# Altium footprint library Connector_Harwin.PcbLib: 102 footprints (part 4 of 7)
Each footprint in its own frame and in the unit in brackets; x right, y up, seen from the top. Pads: shape width x height; smd on the part's side, far side on the other; paste and mask are expansions set on the pad; w line width, h text height; cw(c..) or ccw(c..) is an arc to the next point about the centre after c.
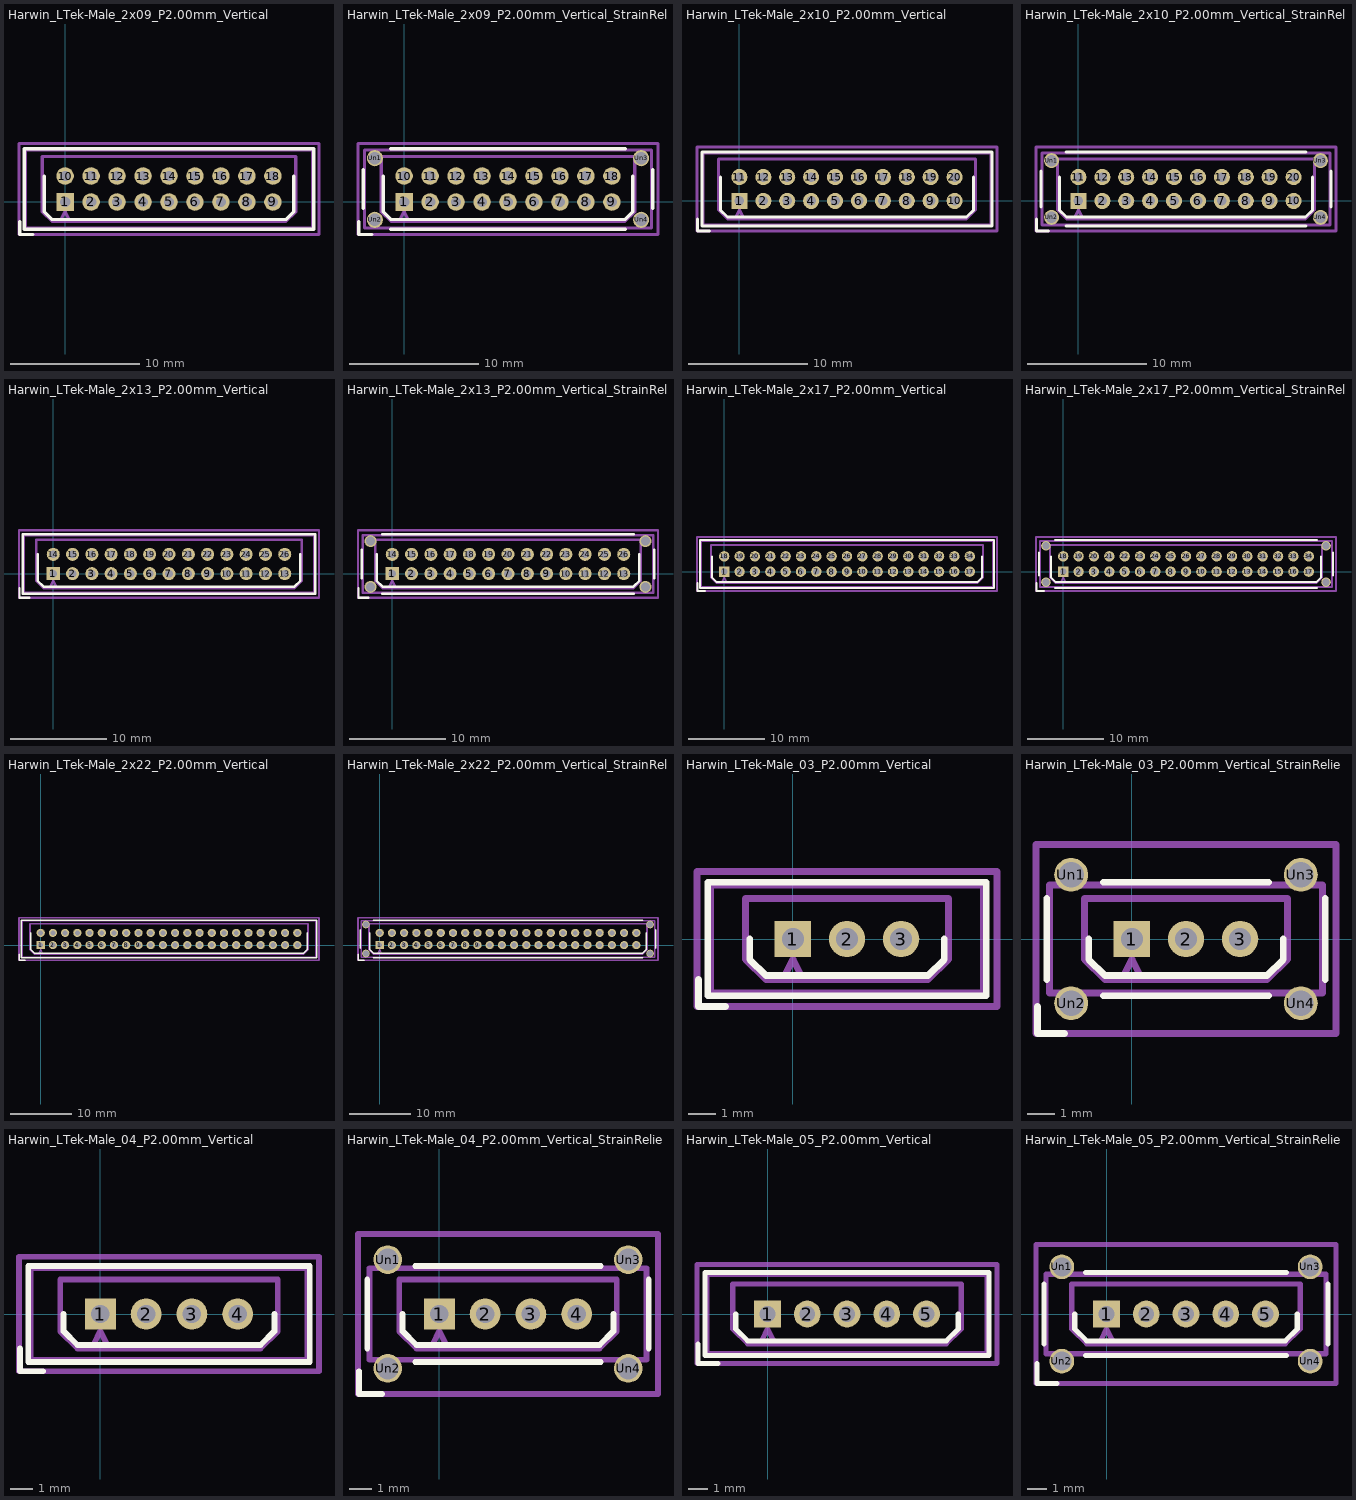
[diagram p3: the footprints below, top view; thin cyan lines are the x and y axes]

## Harwin_LTek-Male_2x09_P2.00mm_Vertical [mm]
pads (18):
  rect 1.35x1.35 hole 0.8: 1(0,0)
  round 1.35 hole 0.8: 2(2,0) 3(4,0) 4(6,0) 5(8,0) 6(10,0) 7(12,0) 8(14,0) 9(16,0) 10(0,2) 11(2,2) 12(4,2) 13(6,2) 14(8,2) 15(10,2) 16(12,2) 17(14,2) 18(16,2)
F.SilkS:
  lines w0.254: -3.5,-1.5 -3.5,-2.5 -2.5,-2.5 ; -1.6,2 -1.6,-0.75 -1,-1.35 8,-1.35 17,-1.35 17.6,-0.75 17.6,2 ; -3.15,-2.1 19.15,-2.1 19.15,4.1 -3.15,4.1 -3.15,-2.1
Top Assembly:
  lines w0.254: -3.05,-2 19.05,-2 19.05,4 -3.05,4 -3.05,-2 ; -1.75,-0.75 -1,-1.5 17,-1.5 17.75,-0.75 17.75,3.5 -1.75,3.5 -1.75,-0.75 ; -0.3,-1.35 0,-0.75 0.3,-1.35 -0.3,-1.35
  text "'.Designator'" at 3.953,-0.84 h1
Top Courtyard:
  lines w0.254: -3.55,-2.5 19.55,-2.5 19.55,4.5 -3.55,4.5 -3.55,-2.5
Top Designator:
  text ".Designator" at 0.382,0.492 h1.52

## Harwin_LTek-Male_2x09_P2.00mm_Vertical_StrainRelief [mm]
pads (22):
  rect 1.35x1.35 hole 0.8: 1(0,0)
  round 1.35 hole 0.8: 2(2,0) 3(4,0) 4(6,0) 5(8,0) 6(10,0) 7(12,0) 8(14,0) 9(16,0) 10(0,2) 11(2,2) 12(4,2) 13(6,2) 14(8,2) 15(10,2) 16(12,2) 17(14,2) 18(16,2)
  round 1.25 hole 0.95: Un1(-2.25,3.375) Un2(-2.25,-1.375) Un3(18.25,3.375) Un4(18.25,-1.375)
F.SilkS:
  lines w0.254: -3.5,-1.5 -3.5,-2.5 -2.5,-2.5 ; -3.15,-0.5 -3.15,2.5 ; -1.6,2 -1.6,-0.75 -1,-1.35 8,-1.35 17,-1.35 17.6,-0.75 17.6,2 ; -1.05,-2.1 17.05,-2.1 ; -1.05,4.1 17.05,4.1 ; 19.15,-0.5 19.15,2.5
Top Assembly:
  lines w0.254: -3.05,-2 19.05,-2 19.05,4 -3.05,4 -3.05,-2 ; -1.75,-0.75 -1,-1.5 17,-1.5 17.75,-0.75 17.75,3.5 -1.75,3.5 -1.75,-0.75 ; -0.3,-1.35 0,-0.75 0.3,-1.35 -0.3,-1.35
  text "'.Designator'" at 3.953,-0.84 h1
Top Courtyard:
  lines w0.254: -3.55,-2.5 19.55,-2.5 19.55,4.5 -3.55,4.5 -3.55,-2.5
Top Designator:
  text ".Designator" at 0.382,0.492 h1.52

## Harwin_LTek-Male_2x10_P2.00mm_Vertical [mm]
pads (20):
  rect 1.35x1.35 hole 0.8: 1(0,0)
  round 1.35 hole 0.8: 2(2,0) 3(4,0) 4(6,0) 5(8,0) 6(10,0) 7(12,0) 8(14,0) 9(16,0) 10(18,0) 11(0,2) 12(2,2) 13(4,2) 14(6,2) 15(8,2) 16(10,2) 17(12,2) 18(14,2) 19(16,2) 20(18,2)
F.SilkS:
  lines w0.254: -3.5,-1.5 -3.5,-2.5 -2.5,-2.5 ; -1.6,2 -1.6,-0.75 -1,-1.35 9,-1.35 19,-1.35 19.6,-0.75 19.6,2 ; -3.15,-2.1 21.15,-2.1 21.15,4.1 -3.15,4.1 -3.15,-2.1
Top Assembly:
  lines w0.254: -3.05,-2 21.05,-2 21.05,4 -3.05,4 -3.05,-2 ; -1.75,-0.75 -1,-1.5 19,-1.5 19.75,-0.75 19.75,3.5 -1.75,3.5 -1.75,-0.75 ; -0.3,-1.35 0,-0.75 0.3,-1.35 -0.3,-1.35
  text "'.Designator'" at 4.953,-0.84 h1
Top Courtyard:
  lines w0.254: -3.55,-2.5 21.55,-2.5 21.55,4.5 -3.55,4.5 -3.55,-2.5
Top Designator:
  text ".Designator" at 1.382,0.492 h1.52

## Harwin_LTek-Male_2x10_P2.00mm_Vertical_StrainRelief [mm]
pads (24):
  rect 1.35x1.35 hole 0.8: 1(0,0)
  round 1.35 hole 0.8: 2(2,0) 3(4,0) 4(6,0) 5(8,0) 6(10,0) 7(12,0) 8(14,0) 9(16,0) 10(18,0) 11(0,2) 12(2,2) 13(4,2) 14(6,2) 15(8,2) 16(10,2) 17(12,2) 18(14,2) 19(16,2) 20(18,2)
  round 1.25 hole 0.95: Un1(-2.25,3.375) Un2(-2.25,-1.375) Un3(20.25,3.375) Un4(20.25,-1.375)
F.SilkS:
  lines w0.254: -3.5,-1.5 -3.5,-2.5 -2.5,-2.5 ; -3.15,-0.5 -3.15,2.5 ; -1.6,2 -1.6,-0.75 -1,-1.35 9,-1.35 19,-1.35 19.6,-0.75 19.6,2 ; -1.05,-2.1 19.05,-2.1 ; -1.05,4.1 19.05,4.1 ; 21.15,-0.5 21.15,2.5
Top Assembly:
  lines w0.254: -3.05,-2 21.05,-2 21.05,4 -3.05,4 -3.05,-2 ; -1.75,-0.75 -1,-1.5 19,-1.5 19.75,-0.75 19.75,3.5 -1.75,3.5 -1.75,-0.75 ; -0.3,-1.35 0,-0.75 0.3,-1.35 -0.3,-1.35
  text "'.Designator'" at 4.953,-0.84 h1
Top Courtyard:
  lines w0.254: -3.55,-2.5 21.55,-2.5 21.55,4.5 -3.55,4.5 -3.55,-2.5
Top Designator:
  text ".Designator" at 1.382,0.492 h1.52

## Harwin_LTek-Male_2x13_P2.00mm_Vertical [mm]
pads (26):
  rect 1.35x1.35 hole 0.8: 1(0,0)
  round 1.35 hole 0.8: 2(2,0) 3(4,0) 4(6,0) 5(8,0) 6(10,0) 7(12,0) 8(14,0) 9(16,0) 10(18,0) 11(20,0) 12(22,0) 13(24,0) 14(0,2) 15(2,2) 16(4,2) 17(6,2) 18(8,2) 19(10,2) 20(12,2) 21(14,2) 22(16,2) 23(18,2) 24(20,2) 25(22,2) 26(24,2)
F.SilkS:
  lines w0.254: -3.5,-1.5 -3.5,-2.5 -2.5,-2.5 ; -1.6,2 -1.6,-0.75 -1,-1.35 12,-1.35 25,-1.35 25.6,-0.75 25.6,2 ; -3.15,-2.1 27.15,-2.1 27.15,4.1 -3.15,4.1 -3.15,-2.1
Top Assembly:
  lines w0.254: -3.05,-2 27.05,-2 27.05,4 -3.05,4 -3.05,-2 ; -1.75,-0.75 -1,-1.5 25,-1.5 25.75,-0.75 25.75,3.5 -1.75,3.5 -1.75,-0.75 ; -0.3,-1.35 0,-0.75 0.3,-1.35 -0.3,-1.35
  text "'.Designator'" at 7.953,-0.84 h1
Top Courtyard:
  lines w0.254: -3.55,-2.5 27.55,-2.5 27.55,4.5 -3.55,4.5 -3.55,-2.5
Top Designator:
  text ".Designator" at 4.382,0.492 h1.52

## Harwin_LTek-Male_2x13_P2.00mm_Vertical_StrainRelief [mm]
pads (30):
  rect 1.35x1.35 hole 0.8: 1(0,0)
  round 1.35 hole 0.8: 2(2,0) 3(4,0) 4(6,0) 5(8,0) 6(10,0) 7(12,0) 8(14,0) 9(16,0) 10(18,0) 11(20,0) 12(22,0) 13(24,0) 14(0,2) 15(2,2) 16(4,2) 17(6,2) 18(8,2) 19(10,2) 20(12,2) 21(14,2) 22(16,2) 23(18,2) 24(20,2) 25(22,2) 26(24,2)
  round 1.25 hole 0.95: Un1(-2.25,3.375) Un2(-2.25,-1.375) Un3(26.25,3.375) Un4(26.25,-1.375)
F.SilkS:
  lines w0.254: -3.5,-1.5 -3.5,-2.5 -2.5,-2.5 ; -3.15,-0.5 -3.15,2.5 ; -1.6,2 -1.6,-0.75 -1,-1.35 12,-1.35 25,-1.35 25.6,-0.75 25.6,2 ; -1.05,-2.1 25.05,-2.1 ; -1.05,4.1 25.05,4.1 ; 27.15,-0.5 27.15,2.5
Top Assembly:
  lines w0.254: -3.05,-2 27.05,-2 27.05,4 -3.05,4 -3.05,-2 ; -1.75,-0.75 -1,-1.5 25,-1.5 25.75,-0.75 25.75,3.5 -1.75,3.5 -1.75,-0.75 ; -0.3,-1.35 0,-0.75 0.3,-1.35 -0.3,-1.35
  text "'.Designator'" at 7.953,-0.84 h1
Top Courtyard:
  lines w0.254: -3.55,-2.5 27.55,-2.5 27.55,4.5 -3.55,4.5 -3.55,-2.5
Top Designator:
  text ".Designator" at 4.382,0.492 h1.52

## Harwin_LTek-Male_2x17_P2.00mm_Vertical [mm]
pads (34):
  rect 1.35x1.35 hole 0.8: 1(0,0)
  round 1.35 hole 0.8: 2(2,0) 3(4,0) 4(6,0) 5(8,0) 6(10,0) 7(12,0) 8(14,0) 9(16,0) 10(18,0) 11(20,0) 12(22,0) 13(24,0) 14(26,0) 15(28,0) 16(30,0) 17(32,0) 18(0,2) 19(2,2) 20(4,2) 21(6,2) 22(8,2) 23(10,2) 24(12,2) 25(14,2) 26(16,2) 27(18,2) 28(20,2) 29(22,2) 30(24,2) 31(26,2) 32(28,2) 33(30,2) 34(32,2)
F.SilkS:
  lines w0.254: -3.5,-1.5 -3.5,-2.5 -2.5,-2.5 ; -1.6,2 -1.6,-0.75 -1,-1.35 16,-1.35 33,-1.35 33.6,-0.75 33.6,2 ; -3.15,-2.1 35.15,-2.1 35.15,4.1 -3.15,4.1 -3.15,-2.1
Top Assembly:
  lines w0.254: -3.05,-2 35.05,-2 35.05,4 -3.05,4 -3.05,-2 ; -1.75,-0.75 -1,-1.5 33,-1.5 33.75,-0.75 33.75,3.5 -1.75,3.5 -1.75,-0.75 ; -0.3,-1.35 0,-0.75 0.3,-1.35 -0.3,-1.35
  text "'.Designator'" at 11.953,-0.84 h1
Top Courtyard:
  lines w0.254: -3.55,-2.5 35.55,-2.5 35.55,4.5 -3.55,4.5 -3.55,-2.5
Top Designator:
  text ".Designator" at 8.382,0.492 h1.52

## Harwin_LTek-Male_2x17_P2.00mm_Vertical_StrainRelief [mm]
pads (38):
  rect 1.35x1.35 hole 0.8: 1(0,0)
  round 1.35 hole 0.8: 2(2,0) 3(4,0) 4(6,0) 5(8,0) 6(10,0) 7(12,0) 8(14,0) 9(16,0) 10(18,0) 11(20,0) 12(22,0) 13(24,0) 14(26,0) 15(28,0) 16(30,0) 17(32,0) 18(0,2) 19(2,2) 20(4,2) 21(6,2) 22(8,2) 23(10,2) 24(12,2) 25(14,2) 26(16,2) 27(18,2) 28(20,2) 29(22,2) 30(24,2) 31(26,2) 32(28,2) 33(30,2) 34(32,2)
  round 1.25 hole 0.95: Un1(-2.25,3.375) Un2(-2.25,-1.375) Un3(34.25,3.375) Un4(34.25,-1.375)
F.SilkS:
  lines w0.254: -3.5,-1.5 -3.5,-2.5 -2.5,-2.5 ; -3.15,-0.5 -3.15,2.5 ; -1.6,2 -1.6,-0.75 -1,-1.35 16,-1.35 33,-1.35 33.6,-0.75 33.6,2 ; -1.05,-2.1 33.05,-2.1 ; -1.05,4.1 33.05,4.1 ; 35.15,-0.5 35.15,2.5
Top Assembly:
  lines w0.254: -3.05,-2 35.05,-2 35.05,4 -3.05,4 -3.05,-2 ; -1.75,-0.75 -1,-1.5 33,-1.5 33.75,-0.75 33.75,3.5 -1.75,3.5 -1.75,-0.75 ; -0.3,-1.35 0,-0.75 0.3,-1.35 -0.3,-1.35
  text "'.Designator'" at 11.953,-0.84 h1
Top Courtyard:
  lines w0.254: -3.55,-2.5 35.55,-2.5 35.55,4.5 -3.55,4.5 -3.55,-2.5
Top Designator:
  text ".Designator" at 8.382,0.492 h1.52

## Harwin_LTek-Male_2x22_P2.00mm_Vertical [mm]
pads (44):
  rect 1.35x1.35 hole 0.8: 1(0,0)
  round 1.35 hole 0.8: 2(2,0) 3(4,0) 4(6,0) 5(8,0) 6(10,0) 7(12,0) 8(14,0) 9(16,0) 10(18,0) 11(20,0) 12(22,0) 13(24,0) 14(26,0) 15(28,0) 16(30,0) 17(32,0) 18(34,0) 19(36,0) 20(38,0) 21(40,0) 22(42,0) 23(0,2) 24(2,2) 25(4,2) 26(6,2) 27(8,2) 28(10,2) 29(12,2) 30(14,2) 31(16,2) 32(18,2) 33(20,2) 34(22,2) 35(24,2) 36(26,2) 37(28,2) 38(30,2) 39(32,2) 40(34,2) 41(36,2) 42(38,2) 43(40,2) 44(42,2)
F.SilkS:
  lines w0.254: -3.5,-1.5 -3.5,-2.5 -2.5,-2.5 ; -1.6,2 -1.6,-0.75 -1,-1.35 21,-1.35 43,-1.35 43.6,-0.75 43.6,2 ; -3.15,-2.1 45.15,-2.1 45.15,4.1 -3.15,4.1 -3.15,-2.1
Top Assembly:
  lines w0.254: -3.05,-2 45.05,-2 45.05,4 -3.05,4 -3.05,-2 ; -1.75,-0.75 -1,-1.5 43,-1.5 43.75,-0.75 43.75,3.5 -1.75,3.5 -1.75,-0.75 ; -0.3,-1.35 0,-0.75 0.3,-1.35 -0.3,-1.35
  text "'.Designator'" at 16.953,-0.84 h1
Top Courtyard:
  lines w0.254: -3.55,-2.5 45.55,-2.5 45.55,4.5 -3.55,4.5 -3.55,-2.5
Top Designator:
  text ".Designator" at 13.382,0.492 h1.52

## Harwin_LTek-Male_2x22_P2.00mm_Vertical_StrainRelief [mm]
pads (48):
  rect 1.35x1.35 hole 0.8: 1(0,0)
  round 1.35 hole 0.8: 2(2,0) 3(4,0) 4(6,0) 5(8,0) 6(10,0) 7(12,0) 8(14,0) 9(16,0) 10(18,0) 11(20,0) 12(22,0) 13(24,0) 14(26,0) 15(28,0) 16(30,0) 17(32,0) 18(34,0) 19(36,0) 20(38,0) 21(40,0) 22(42,0) 23(0,2) 24(2,2) 25(4,2) 26(6,2) 27(8,2) 28(10,2) 29(12,2) 30(14,2) 31(16,2) 32(18,2) 33(20,2) 34(22,2) 35(24,2) 36(26,2) 37(28,2) 38(30,2) 39(32,2) 40(34,2) 41(36,2) 42(38,2) 43(40,2) 44(42,2)
  round 1.25 hole 0.95: Un1(-2.25,3.375) Un2(-2.25,-1.375) Un3(44.25,3.375) Un4(44.25,-1.375)
F.SilkS:
  lines w0.254: -3.5,-1.5 -3.5,-2.5 -2.5,-2.5 ; -3.15,-0.5 -3.15,2.5 ; -1.6,2 -1.6,-0.75 -1,-1.35 21,-1.35 43,-1.35 43.6,-0.75 43.6,2 ; -1.05,-2.1 43.05,-2.1 ; -1.05,4.1 43.05,4.1 ; 45.15,-0.5 45.15,2.5
Top Assembly:
  lines w0.254: -3.05,-2 45.05,-2 45.05,4 -3.05,4 -3.05,-2 ; -1.75,-0.75 -1,-1.5 43,-1.5 43.75,-0.75 43.75,3.5 -1.75,3.5 -1.75,-0.75 ; -0.3,-1.35 0,-0.75 0.3,-1.35 -0.3,-1.35
  text "'.Designator'" at 16.953,-0.84 h1
Top Courtyard:
  lines w0.254: -3.55,-2.5 45.55,-2.5 45.55,4.5 -3.55,4.5 -3.55,-2.5
Top Designator:
  text ".Designator" at 13.382,0.492 h1.52

## Harwin_LTek-Male_03_P2.00mm_Vertical [mm]
pads (3):
  rect 1.35x1.35 hole 0.8: 1(0,0)
  round 1.35 hole 0.8: 2(2,0) 3(4,0)
F.SilkS:
  lines w0.254: -3.5,-1.5 -3.5,-2.5 -2.5,-2.5 ; -1.6,0 -1.6,-0.75 -1,-1.35 2,-1.35 5,-1.35 5.6,-0.75 5.6,0 ; -3.15,-2.1 7.15,-2.1 7.15,2.1 -3.15,2.1 -3.15,-2.1
Top Assembly:
  lines w0.254: -3.05,-2 7.05,-2 7.05,2 -3.05,2 -3.05,-2 ; -1.75,-0.75 -1,-1.5 5,-1.5 5.75,-0.75 5.75,1.5 -1.75,1.5 -1.75,-0.75 ; -0.3,-1.35 0,-0.75 0.3,-1.35 -0.3,-1.35
  text "'.Designator'" at -2.047,-0.84 h1
Top Courtyard:
  lines w0.254: -3.55,-2.5 7.55,-2.5 7.55,2.5 -3.55,2.5 -3.55,-2.5
Top Designator:
  text ".Designator" at -5.618,-0.508 h1.52

## Harwin_LTek-Male_03_P2.00mm_Vertical_StrainRelief [mm]
pads (7):
  rect 1.35x1.35 hole 0.8: 1(0,0)
  round 1.35 hole 0.8: 2(2,0) 3(4,0)
  round 1.25 hole 0.95: Un1(-2.25,2.375) Un2(-2.25,-2.375) Un3(6.25,2.375) Un4(6.25,-2.375)
F.SilkS:
  lines w0.254: -3.5,-2.5 -3.5,-3.5 -2.5,-3.5 ; -3.15,-1.5 -3.15,1.5 ; -1.6,0 -1.6,-0.75 -1,-1.35 2,-1.35 5,-1.35 5.6,-0.75 5.6,0 ; -1.05,-2.1 5.05,-2.1 ; -1.05,2.1 5.05,2.1 ; 7.15,-1.5 7.15,1.5
Top Assembly:
  lines w0.254: -3.05,-2 7.05,-2 7.05,2 -3.05,2 -3.05,-2 ; -1.75,-0.75 -1,-1.5 5,-1.5 5.75,-0.75 5.75,1.5 -1.75,1.5 -1.75,-0.75 ; -0.3,-1.35 0,-0.75 0.3,-1.35 -0.3,-1.35
  text "'.Designator'" at -2.047,-0.84 h1
Top Courtyard:
  lines w0.254: -3.55,-3.5 7.55,-3.5 7.55,3.5 -3.55,3.5 -3.55,-3.5
Top Designator:
  text ".Designator" at -5.618,-0.508 h1.52

## Harwin_LTek-Male_04_P2.00mm_Vertical [mm]
pads (4):
  rect 1.35x1.35 hole 0.8: 1(0,0)
  round 1.35 hole 0.8: 2(2,0) 3(4,0) 4(6,0)
F.SilkS:
  lines w0.254: -3.5,-1.5 -3.5,-2.5 -2.5,-2.5 ; -1.6,0 -1.6,-0.75 -1,-1.35 3,-1.35 7,-1.35 7.6,-0.75 7.6,0 ; -3.15,-2.1 9.15,-2.1 9.15,2.1 -3.15,2.1 -3.15,-2.1
Top Assembly:
  lines w0.254: -3.05,-2 9.05,-2 9.05,2 -3.05,2 -3.05,-2 ; -1.75,-0.75 -1,-1.5 7,-1.5 7.75,-0.75 7.75,1.5 -1.75,1.5 -1.75,-0.75 ; -0.3,-1.35 0,-0.75 0.3,-1.35 -0.3,-1.35
  text "'.Designator'" at -1.047,-0.84 h1
Top Courtyard:
  lines w0.254: -3.55,-2.5 9.55,-2.5 9.55,2.5 -3.55,2.5 -3.55,-2.5
Top Designator:
  text ".Designator" at -4.618,-0.508 h1.52

## Harwin_LTek-Male_04_P2.00mm_Vertical_StrainRelief [mm]
pads (8):
  rect 1.35x1.35 hole 0.8: 1(0,0)
  round 1.35 hole 0.8: 2(2,0) 3(4,0) 4(6,0)
  round 1.25 hole 0.95: Un1(-2.25,2.375) Un2(-2.25,-2.375) Un3(8.25,2.375) Un4(8.25,-2.375)
F.SilkS:
  lines w0.254: -3.5,-2.5 -3.5,-3.5 -2.5,-3.5 ; -3.15,-1.5 -3.15,1.5 ; -1.6,0 -1.6,-0.75 -1,-1.35 3,-1.35 7,-1.35 7.6,-0.75 7.6,0 ; -1.05,-2.1 7.05,-2.1 ; -1.05,2.1 7.05,2.1 ; 9.15,-1.5 9.15,1.5
Top Assembly:
  lines w0.254: -3.05,-2 9.05,-2 9.05,2 -3.05,2 -3.05,-2 ; -1.75,-0.75 -1,-1.5 7,-1.5 7.75,-0.75 7.75,1.5 -1.75,1.5 -1.75,-0.75 ; -0.3,-1.35 0,-0.75 0.3,-1.35 -0.3,-1.35
  text "'.Designator'" at -1.047,-0.84 h1
Top Courtyard:
  lines w0.254: -3.55,-3.5 9.55,-3.5 9.55,3.5 -3.55,3.5 -3.55,-3.5
Top Designator:
  text ".Designator" at -4.618,-0.508 h1.52

## Harwin_LTek-Male_05_P2.00mm_Vertical [mm]
pads (5):
  rect 1.35x1.35 hole 0.8: 1(0,0)
  round 1.35 hole 0.8: 2(2,0) 3(4,0) 4(6,0) 5(8,0)
F.SilkS:
  lines w0.254: -3.5,-1.5 -3.5,-2.5 -2.5,-2.5 ; -1.6,0 -1.6,-0.75 -1,-1.35 4,-1.35 9,-1.35 9.6,-0.75 9.6,0 ; -3.15,-2.1 11.15,-2.1 11.15,2.1 -3.15,2.1 -3.15,-2.1
Top Assembly:
  lines w0.254: -3.05,-2 11.05,-2 11.05,2 -3.05,2 -3.05,-2 ; -1.75,-0.75 -1,-1.5 9,-1.5 9.75,-0.75 9.75,1.5 -1.75,1.5 -1.75,-0.75 ; -0.3,-1.35 0,-0.75 0.3,-1.35 -0.3,-1.35
  text "'.Designator'" at -0.047,-0.84 h1
Top Courtyard:
  lines w0.254: -3.55,-2.5 11.55,-2.5 11.55,2.5 -3.55,2.5 -3.55,-2.5
Top Designator:
  text ".Designator" at -3.618,-0.508 h1.52

## Harwin_LTek-Male_05_P2.00mm_Vertical_StrainRelief [mm]
pads (9):
  rect 1.35x1.35 hole 0.8: 1(0,0)
  round 1.35 hole 0.8: 2(2,0) 3(4,0) 4(6,0) 5(8,0)
  round 1.25 hole 0.95: Un1(-2.25,2.375) Un2(-2.25,-2.375) Un3(10.25,2.375) Un4(10.25,-2.375)
F.SilkS:
  lines w0.254: -3.5,-2.5 -3.5,-3.5 -2.5,-3.5 ; -3.15,-1.5 -3.15,1.5 ; -1.6,0 -1.6,-0.75 -1,-1.35 4,-1.35 9,-1.35 9.6,-0.75 9.6,0 ; -1.05,-2.1 9.05,-2.1 ; -1.05,2.1 9.05,2.1 ; 11.15,-1.5 11.15,1.5
Top Assembly:
  lines w0.254: -3.05,-2 11.05,-2 11.05,2 -3.05,2 -3.05,-2 ; -1.75,-0.75 -1,-1.5 9,-1.5 9.75,-0.75 9.75,1.5 -1.75,1.5 -1.75,-0.75 ; -0.3,-1.35 0,-0.75 0.3,-1.35 -0.3,-1.35
  text "'.Designator'" at -0.047,-0.84 h1
Top Courtyard:
  lines w0.254: -3.55,-3.5 11.55,-3.5 11.55,3.5 -3.55,3.5 -3.55,-3.5
Top Designator:
  text ".Designator" at -3.618,-0.508 h1.52